# Altium schematic symbol library CAN_Sniffer_HAT.SchLib: 13 symbols
Pins are listed as number, name and electrical type; pins without a type are passive.

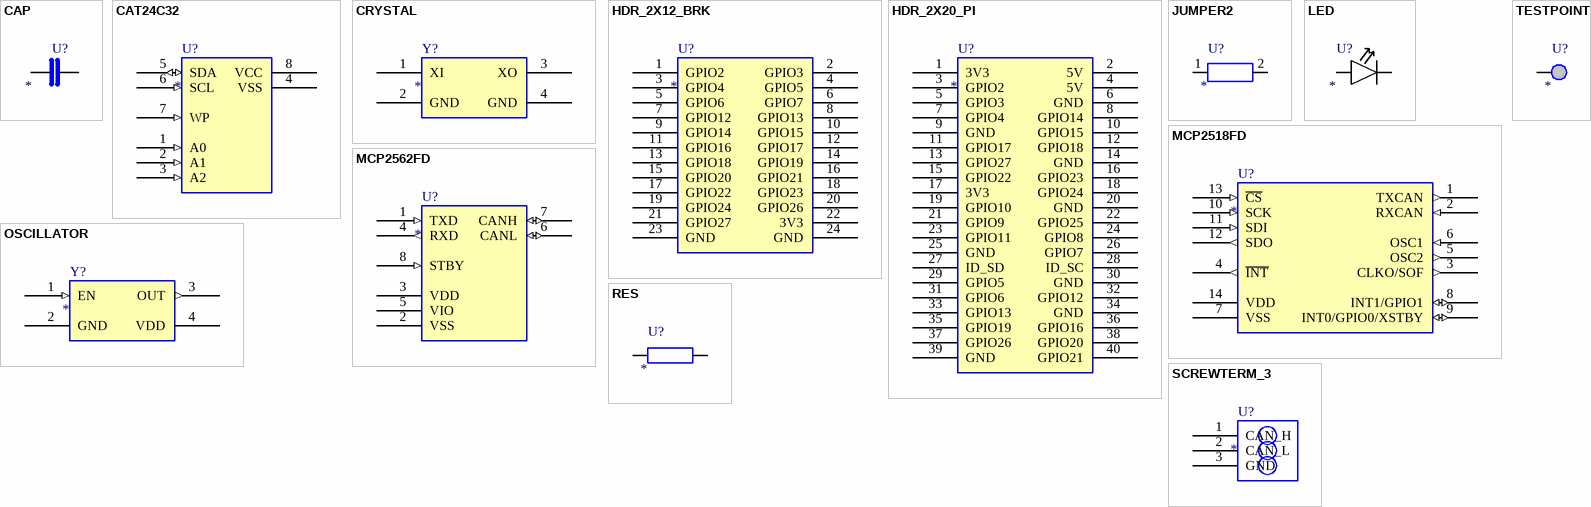
[diagram p0: symbols CAP to TESTPOINT]

## CAP
designator U?
Capacitor, non-polarised, 0805
footprint 0805 (0805 chip resistor/capacitor, hand-solder land)
pins: 1, 2

## CAT24C32
designator U?
32 kbit I2C EEPROM, 16-bit addressing, HAT ID EEPROM, SOIC-8
footprint SOIC-8_150MIL (8-lead SOIC, 150 mil body, 1.27 mm pitch)
pins: 1 A0 (in), 2 A1 (in), 3 A2 (in), 4 VSS (power), 5 SDA (io), 6 SCL (in), 7 WP (in), 8 VCC (power)

## CRYSTAL
designator Y?
40 MHz crystal, 3.2 x 2.5 mm 4-pad, case pads grounded
pins: 1 XI, 2 GND, 3 XO, 4 GND

## HDR_2X12_BRK
designator U?
GPIO breakout header, 2x12, 2.54 mm - all 21 unused Pi GPIO
footprint HDR_2X12_254 (2x12 pin header, 2.54 mm pitch, through-hole)
pins: 1 GPIO2, 2 GPIO3, 3 GPIO4, 4 GPIO5, 5 GPIO6, 6 GPIO7, 7 GPIO12, 8 GPIO13, 9 GPIO14, 10 GPIO15, 11 GPIO16, 12 GPIO17, 13 GPIO18, 14 GPIO19, 15 GPIO20, 16 GPIO21, 17 GPIO22, 18 GPIO23, 19 GPIO24, 20 GPIO26, 21 GPIO27, 22 3V3, 23 GND, 24 GND

## HDR_2X20_PI
designator U?
Raspberry Pi 40-pin GPIO header, 2x20, 2.54 mm
footprint HDR_2X20_254 (2x20 pin header, 2.54 mm pitch, through-hole)
pins: 1 3V3, 2 5V, 3 GPIO2, 4 5V, 5 GPIO3, 6 GND, 7 GPIO4, 8 GPIO14, 9 GND, 10 GPIO15, 11 GPIO17, 12 GPIO18, 13 GPIO27, 14 GND, 15 GPIO22, 16 GPIO23, 17 3V3, 18 GPIO24, 19 GPIO10, 20 GND, 21 GPIO9, 22 GPIO25, 23 GPIO11, 24 GPIO8, 25 GND, 26 GPIO7, 27 ID_SD, 28 ID_SC, 29 GPIO5, 30 GND, 31 GPIO6, 32 GPIO12, 33 GPIO13, 34 GND, 35 GPIO19, 36 GPIO16, 37 GPIO26, 38 GPIO20, 39 GND, 40 GPIO21

## JUMPER2
designator U?
2-pin header with shunt, 2.54 mm
footprint HDR_1X2_254 (2-pin header for shunt, 2.54 mm pitch, through-hole)
pins: 1, 2

## LED
designator U?
LED, 0805
footprint LED_0805 (0805 LED, hand-solder land, pad 2 = cathode)
pins: 1 A, 2 K

## MCP2518FD
designator U?
CAN FD controller, SPI, 8 Mbit/s, SOIC-14
footprint SOIC-14_150MIL (14-lead SOIC, 150 mil body, 1.27 mm pitch)
pins: 1 TXCAN (out), 2 RXCAN (in), 3 CLKO/SOF (out), 4 ~{INT} (out), 5 OSC2 (out), 6 OSC1 (in), 7 VSS (power), 8 INT1/GPIO1 (io), 9 INT0/GPIO0/XSTBY (io), 10 SCK (in), 11 SDI (in), 12 SDO (out), 13 ~{CS} (in), 14 VDD (power)

## MCP2562FD
designator U?
CAN FD transceiver with VIO level shift, SOIC-8
footprint SOIC-8_150MIL (8-lead SOIC, 150 mil body, 1.27 mm pitch)
pins: 1 TXD (in), 2 VSS (power), 3 VDD (power), 4 RXD (out), 5 VIO (power), 6 CANL (io), 7 CANH (io), 8 STBY (in)

## OSCILLATOR
designator Y?
footprint XTAL_3225_4P (3.2 x 2.5 mm 4-pad crystal - VERIFY against ordered part)
pins: 1 EN (in), 2 GND, 3 OUT (out), 4 VDD (power)

## RES
designator U?
Resistor, 0805
footprint 0805 (0805 chip resistor/capacitor, hand-solder land)
pins: 1, 2

## SCREWTERM_3
designator U?
Pluggable screw terminal, 3 position, 3.5 mm pitch
footprint TERM_3P_350 (3-position pluggable screw terminal, 3.5 mm pitch)
pins: 1 CAN_H, 2 CAN_L, 3 GND

## TESTPOINT
designator U?
Test point / probe pad
footprint TESTPOINT_60 (Test point, 60 mil round pad)
pins: 1 TP